# Altium schematic symbol library GolgiBot_V202.SCHLIB: 7 symbols
Pins are listed as number, name and electrical type; pins without a type are passive.

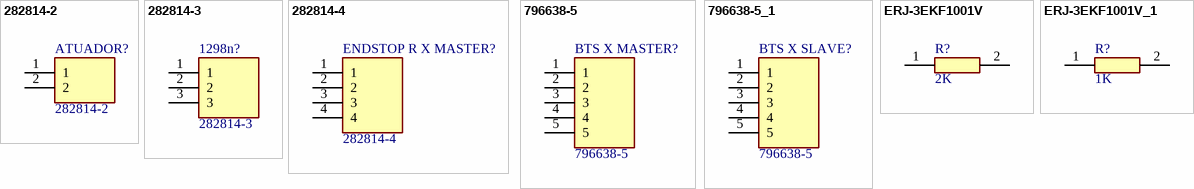
[diagram p0: symbols 282814-2 to ERJ-3EKF1001V_1]

## 282814-2
designator ATUADOR?
TERMI-BLOK HEADER,ASSY90 3P.5; Package: None; Availability: Unavailable; Value: *; MP: 282814-2; Price: None
footprint TE_282814-2
pins: 1, 2

## 282814-3
designator 1298n?
TERMI-BLOK HEADER,ASSY90 3P.5; Number_of_Positions: 3; MF: TE Connectivity; Centerline_Pitch: 5.08 mm[.2 in]; Value: *; MP: 282814-3; EU_RoHS_Compliance: Compliant; Package: None; TE_purchase_URL: https://www.te.com/usa-en/product-282814-3.html?te_bu=Cor&te_type=disp&te_campaign=seda_glo_cor-seda-global-disp-prtnr-fy19-seda-model-bom-cta_sma-317_1&elqCampaignId=32493; SnapEDA_Link: https://www.snapeda.com/parts/282814-3/TE%20Connectivity%20AMP%20Connectors/view-part/970102/?ref=snap; Availability: Unavailable; Price: None
footprint TE_282814-3
pins: 1, 2, 3

## 282814-4
designator ENDSTOP R X MASTER?
Connector; Manufacturer_Name: TE Connectivity; Datasheet Link: https://www.te.com/commerce/DocumentDelivery/DDEController?Action=showdoc&DocId=Customer+Drawing%7F282814%7FC1%7Fpdf%7FEnglish%7FENG_CD_282814_C1.pdf%7F282814-4; Height: 8.5mm; Manufacturer_Part_Number: 282814-4; Mouser Part Number: 571-282814-4; Mouser Price/Stock: https://www.mouser.co.uk/ProductDetail/TE-Connectivity/282814-4?qs=79%2FjLZ2kXkrgi3RIXIXGaA%3D%3D; Arrow Part Number: 282814-4; Arrow Price/Stock: https://www.arrow.com/en/products/282814-4/te-connectivity?region=nac
footprint 2828144
pins: 1, 2, 3, 4

## 796638-5
designator BTS X MASTER?
5 Position Terminal Block Header, Male Pins, Shrouded (4 Side) 0.200 (5.08mm) 90Â°, Right Angle Through Hole; MF: TE Connectivity; Centerline_Pitch: 5.08 mm[.2 in]; Number_of_Positions: 5; SnapEDA_Link: https://www.snapeda.com/parts/796638-5/TE%20Connectivity%20AMP%20Connectors/view-part/275803/?ref=snap; Check_prices: https://www.snapeda.com/parts/796638-5/TE%20Connectivity%20AMP%20Connectors/view-part/275803/?ref=eda; Availability: Good; MP: 796638-5; Package: None; Purchase-URL: https://pricing.snapeda.com/search/part/796638-5/?ref=eda; Price: None; Value: *; EU_RoHS_Compliance: Compliant
footprint TE_796638-5
pins: 1, 2, 3, 4, 5

## 796638-5_1
designator BTS X SLAVE?, comment 796638-5
5 Position Terminal Block Header, Male Pins, Shrouded (4 Side) 0.200 (5.08mm) 90Â°, Right Angle Through Hole; MF: TE Connectivity; Centerline_Pitch: 5.08 mm[.2 in]; Number_of_Positions: 5; SnapEDA_Link: https://www.snapeda.com/parts/796638-5/TE%20Connectivity%20AMP%20Connectors/view-part/275803/?ref=snap; Check_prices: https://www.snapeda.com/parts/796638-5/TE%20Connectivity%20AMP%20Connectors/view-part/275803/?ref=eda; Availability: Good; MP: 796638-5; Package: None; Purchase-URL: https://pricing.snapeda.com/search/part/796638-5/?ref=eda; Price: None; Value: *; EU_RoHS_Compliance: Compliant
footprint TE_796638-5
pins: 1, 2, 3, 4, 5

## ERJ-3EKF1001V
designator R?, comment 2K
Resistor; Manufacturer_Name: Panasonic; Manufacturer_Part_Number: ERJ-3EKF1001V; Datasheet Link: http://industrial.panasonic.com/cdbs/www-data/pdf/RDA0000/AOA0000C86.pdf; Height: 0.55mm; Mouser Part Number: 667-ERJ-3EKF1001V; Mouser Price/Stock: https://www.mouser.co.uk/ProductDetail/Panasonic/ERJ-3EKF1001V?qs=H7k1u0Mp9JTM8yQxOuvoDg%3D%3D; Arrow Part Number: ERJ-3EKF1001V; Arrow Price/Stock: https://www.arrow.com/en/products/erj-3ekf1001v/panasonic?region=nac
footprint RESC1608X55N
pins: 1, 2

## ERJ-3EKF1001V_1
designator R?, comment 1K
Resistor; Manufacturer_Name: Panasonic; Manufacturer_Part_Number: ERJ-3EKF1001V; Datasheet Link: http://industrial.panasonic.com/cdbs/www-data/pdf/RDA0000/AOA0000C86.pdf; Height: 0.55mm; Mouser Part Number: 667-ERJ-3EKF1001V; Mouser Price/Stock: https://www.mouser.co.uk/ProductDetail/Panasonic/ERJ-3EKF1001V?qs=H7k1u0Mp9JTM8yQxOuvoDg%3D%3D; Arrow Part Number: ERJ-3EKF1001V; Arrow Price/Stock: https://www.arrow.com/en/products/erj-3ekf1001v/panasonic?region=nac
footprint RESC1608X55N
pins: 1, 2